# Altium schematic symbol library 2.schlib: 1 symbol
Pins are listed as number, name and electrical type; pins without a type are passive.

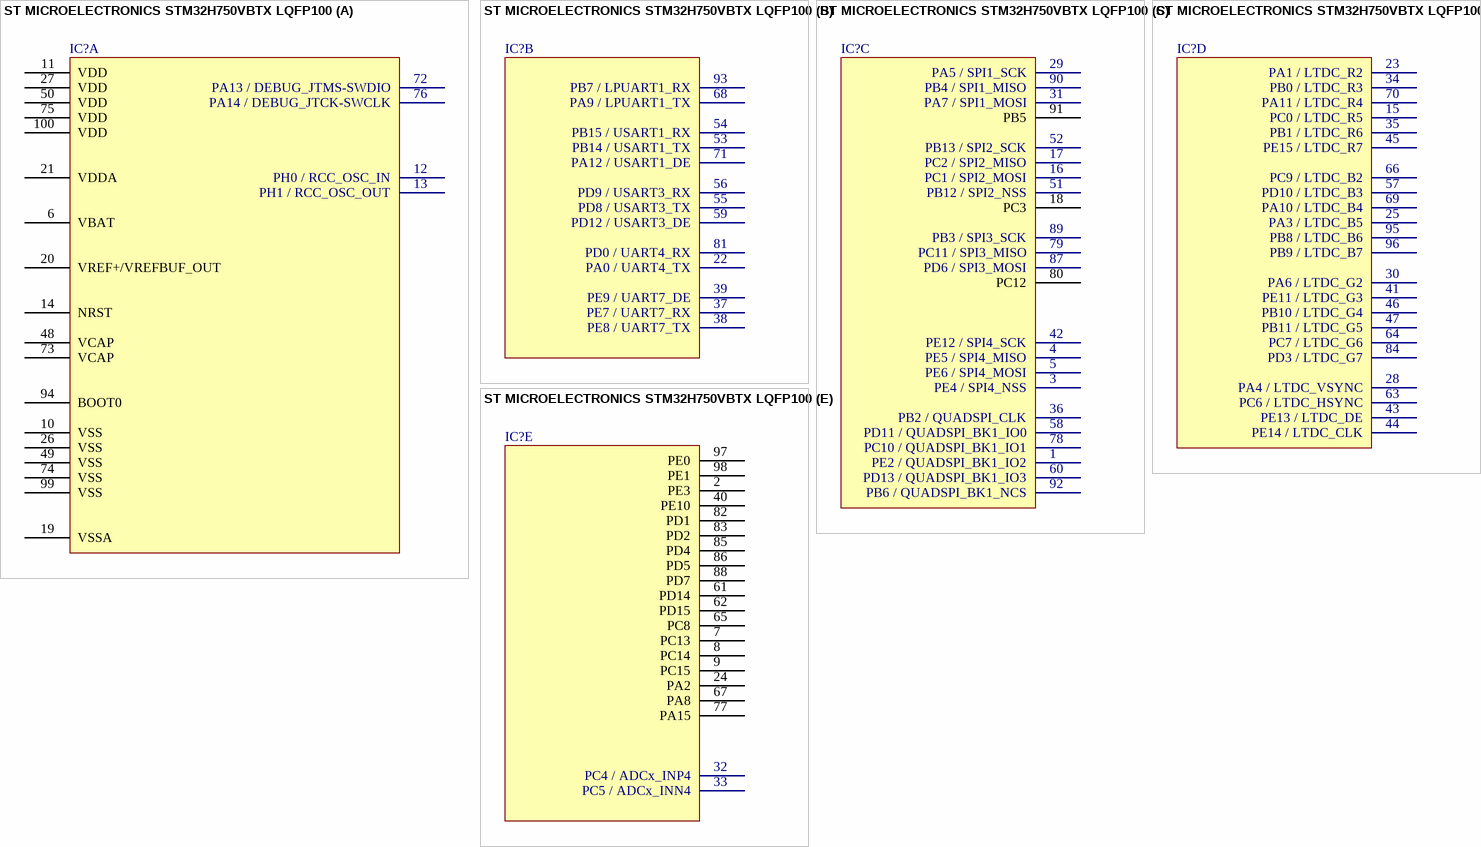
[diagram p0: symbol ST MICROELECTRONICS STM32H750VBTX LQFP100]

## ST MICROELECTRONICS STM32H750VBTX LQFP100
designator IC?, comment STM32H750VBT6  (value not drawn)
part A pins: 6 VBAT, 10 VSS, 11 VDD, 12 PH0 / RCC_OSC_IN "RCC", 13 PH1 / RCC_OSC_OUT "RCC", 14 NRST, 19 VSSA, 20 VREF+/VREFBUF_OUT, 21 VDDA, 26 VSS, 27 VDD, 48 VCAP, 49 VSS, 50 VDD, 72 PA13 / DEBUG_JTMS-SWDIO "DEBUG", 73 VCAP, 74 VSS, 75 VDD, 76 PA14 / DEBUG_JTCK-SWCLK "DEBUG", 94 BOOT0, 99 VSS, 100 VDD
part B pins: 22 PA0 / UART4_TX "UART4", 37 PE7 / UART7_RX "UART7", 38 PE8 / UART7_TX "UART7", 39 PE9 / UART7_DE "UART7", 53 PB14 / USART1_TX "USART1", 54 PB15 / USART1_RX "USART1", 55 PD8 / USART3_TX "USART3", 56 PD9 / USART3_RX "USART3", 59 PD12 / USART3_DE "USART3", 68 PA9 / LPUART1_TX "LPUART1", 71 PA12 / USART1_DE "USART1", 81 PD0 / UART4_RX "UART4", 93 PB7 / LPUART1_RX "LPUART1"
part C pins: 1 PE2 / QUADSPI_BK1_IO2 "QUADSPI", 3 PE4 / SPI4_NSS "SPI4", 4 PE5 / SPI4_MISO "SPI4", 5 PE6 / SPI4_MOSI "SPI4", 16 PC1 / SPI2_MOSI "SPI2", 17 PC2 / SPI2_MISO "SPI2", 18 PC3, 29 PA5 / SPI1_SCK "SPI1", 31 PA7 / SPI1_MOSI "SPI1", 36 PB2 / QUADSPI_CLK "QUADSPI", 42 PE12 / SPI4_SCK "SPI4", 51 PB12 / SPI2_NSS "SPI2", 52 PB13 / SPI2_SCK "SPI2", 58 PD11 / QUADSPI_BK1_IO0 "QUADSPI", 60 PD13 / QUADSPI_BK1_IO3 "QUADSPI", 78 PC10 / QUADSPI_BK1_IO1 "QUADSPI", 79 PC11 / SPI3_MISO "SPI3", 80 PC12, 87 PD6 / SPI3_MOSI "SPI3", 89 PB3 / SPI3_SCK "SPI3", 90 PB4 / SPI1_MISO "SPI1", 91 PB5, 92 PB6 / QUADSPI_BK1_NCS "QUADSPI"
part D pins: 15 PC0 / LTDC_R5 "LTDC", 23 PA1 / LTDC_R2 "LTDC", 25 PA3 / LTDC_B5 "LTDC", 28 PA4 / LTDC_VSYNC "LTDC", 30 PA6 / LTDC_G2 "LTDC", 34 PB0 / LTDC_R3 "LTDC", 35 PB1 / LTDC_R6 "LTDC", 41 PE11 / LTDC_G3 "LTDC", 43 PE13 / LTDC_DE "LTDC", 44 PE14 / LTDC_CLK "LTDC", 45 PE15 / LTDC_R7 "LTDC", 46 PB10 / LTDC_G4 "LTDC", 47 PB11 / LTDC_G5 "LTDC", 57 PD10 / LTDC_B3 "LTDC", 63 PC6 / LTDC_HSYNC "LTDC", 64 PC7 / LTDC_G6 "LTDC", 66 PC9 / LTDC_B2 "LTDC", 69 PA10 / LTDC_B4 "LTDC", 70 PA11 / LTDC_R4 "LTDC", 84 PD3 / LTDC_G7 "LTDC", 95 PB8 / LTDC_B6 "LTDC", 96 PB9 / LTDC_B7 "LTDC"
part E pins: 2 PE3, 7 PC13, 8 PC14, 9 PC15, 24 PA2, 32 PC4 / ADCx_INP4 "ADCx", 33 PC5 / ADCx_INN4 "ADCx", 40 PE10, 61 PD14, 62 PD15, 65 PC8, 67 PA8, 77 PA15, 82 PD1, 83 PD2, 85 PD4, 86 PD5, 88 PD7, 97 PE0, 98 PE1